# Altium schematic symbol library SCH - POWER - LINEAR VREG - TI LP5951MF-1.3.SchLib: 1 symbol
Pins are listed as number, name and electrical type; pins without a type are passive.

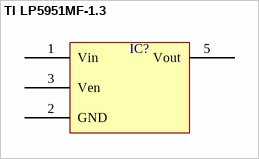
[diagram p0: symbol TI LP5951MF-1.3]

## TI LP5951MF-1.3
designator IC?  (value not drawn)
pins: 1 Vin, 2 GND, 3 Ven, 5 Vout